# EAGLE library part DSPIC30F4013-20I/P (library Microchip_By_element14_Batch_1)
16-bit Digital Signal Controllers
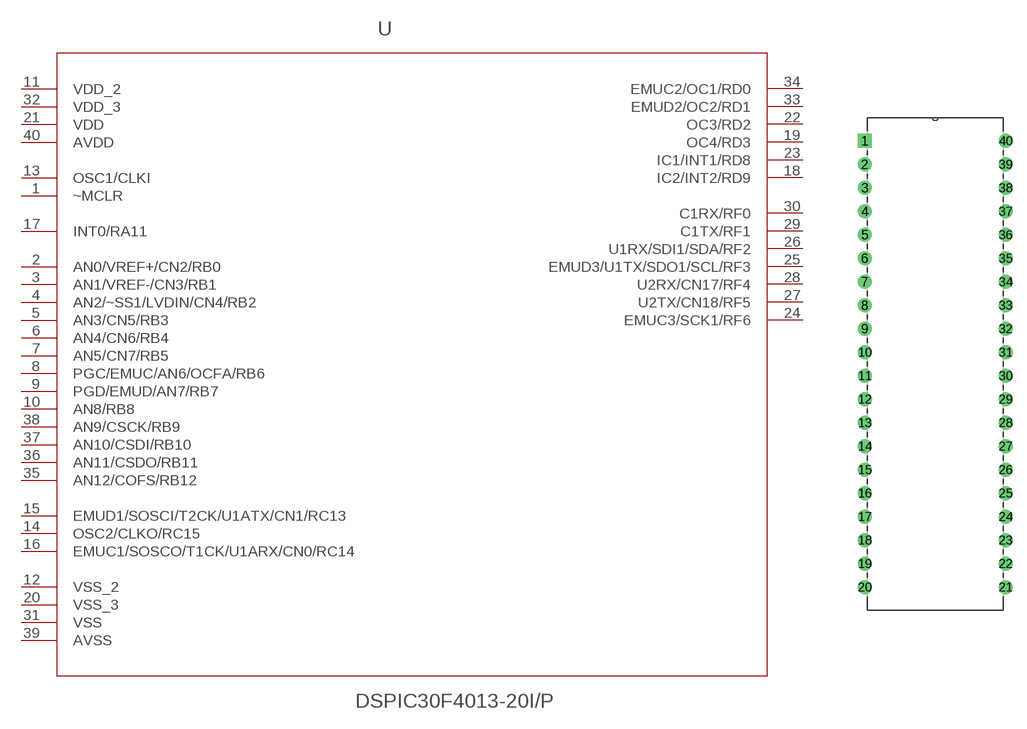
[diagram p305: symbol with the pads of DIP254P1524X635-40; footprint DIP254P1524X635-40]

Designator prefix -

## DSPIC30F4013-20I/P (MPN: DSPIC30F4013-20I/P; OC_FARNELL: 1439755; OC_NEWARK: 71J3767; PACKAGE: DIP-40; SUPPLIER: Microchip)  [DIP254P1524X635-40]
1  ~MCLR  in
2  AN0/VREF+/CN2/RB0
3  AN1/VREF-/CN3/RB1
4  AN2/~SS1/LVDIN/CN4/RB2
5  AN3/CN5/RB3
6  AN4/CN6/RB4
7  AN5/CN7/RB5
8  PGC/EMUC/AN6/OCFA/RB6
9  PGD/EMUD/AN7/RB7
10  AN8/RB8
11  VDD_2  pwr
12  VSS_2  pwr
13  OSC1/CLKI  in
14  OSC2/CLKO/RC15
15  EMUD1/SOSCI/T2CK/U1ATX/CN1/RC13
16  EMUC1/SOSCO/T1CK/U1ARX/CN0/RC14
17  INT0/RA11
18  IC2/INT2/RD9
19  OC4/RD3
20  VSS_3  pwr
21  VDD  pwr
22  OC3/RD2
23  IC1/INT1/RD8
24  EMUC3/SCK1/RF6
25  EMUD3/U1TX/SDO1/SCL/RF3
26  U1RX/SDI1/SDA/RF2
27  U2TX/CN18/RF5
28  U2RX/CN17/RF4
29  C1TX/RF1
30  C1RX/RF0
31  VSS  pwr
32  VDD_3  pwr
33  EMUD2/OC2/RD1
34  EMUC2/OC1/RD0
35  AN12/COFS/RB12
36  AN11/CSDO/RB11
37  AN10/CSDI/RB10
38  AN9/CSCK/RB9
39  AVSS  pwr
40  AVDD  pwr

## Footprint DIP254P1524X635-40 (pad centres in mm)
drill 0.991 square: 1 -15.24,48.26
drill 0.991: 2 -15.24,45.72; 3 -15.24,43.18; 4 -15.24,40.64; 5 -15.24,38.1; 6 -15.24,35.56; 7 -15.24,33.02; 8 -15.24,30.48; 9 -15.24,27.94; 10 -15.24,25.4; 11 -15.24,22.86; 12 -15.24,20.32; 13 -15.24,17.78; 14 -15.24,15.24; 15 -15.24,12.7; 16 -15.24,10.16; 17 -15.24,7.62; 18 -15.24,5.08; 19 -15.24,2.54; 20 -15.24,0; 21 0,0; 22 0,2.54; 23 0,5.08; 24 0,7.62; 25 0,10.16; 26 0,12.7; 27 0,15.24; 28 0,17.78; 29 0,20.32; 30 0,22.86; 31 0,25.4; 32 0,27.94; 33 0,30.48; 34 0,33.02; 35 0,35.56; 36 0,38.1; 37 0,40.64; 38 0,43.18; 39 0,45.72; 40 0,48.26